# EAGLE library part 310090065_24LC128T-I/SN (library Seeed-OPL-2017-01-IC-Akita)
Microchip;24LC128T-I/SN, SMD IC Memory;SOIC-8, SKU: 310090065
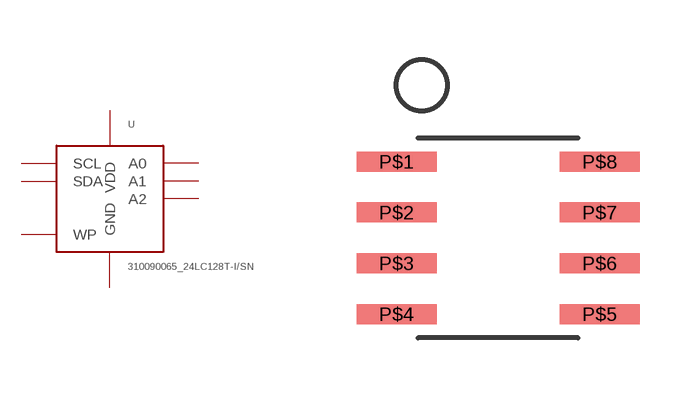
[diagram p8: symbol with the pads of SOIC8; footprint SOIC8]

Designator prefix U

## 310090065_24LC128T-I/SN  [SOIC8]
P$1  A0
P$2  A1
P$3  A2
P$4  GND  pwr
P$5  SDA
P$6  SCL
P$7  WP
P$8  VDD  pwr

## Footprint SOIC8 (pad centres in mm)
SOIC8 (1.27mm pitch)
smd 2 x 0.5: P$1 -2.54,1.905; P$2 -2.54,0.635; P$3 -2.54,-0.635; P$4 -2.54,-1.905; P$5 2.54,-1.905; P$6 2.54,-0.635; P$7 2.54,0.635; P$8 2.54,1.905